# EAGLE library part VIDEL (library F030NG)
VIDEL / LSI LOGIC L5A4164
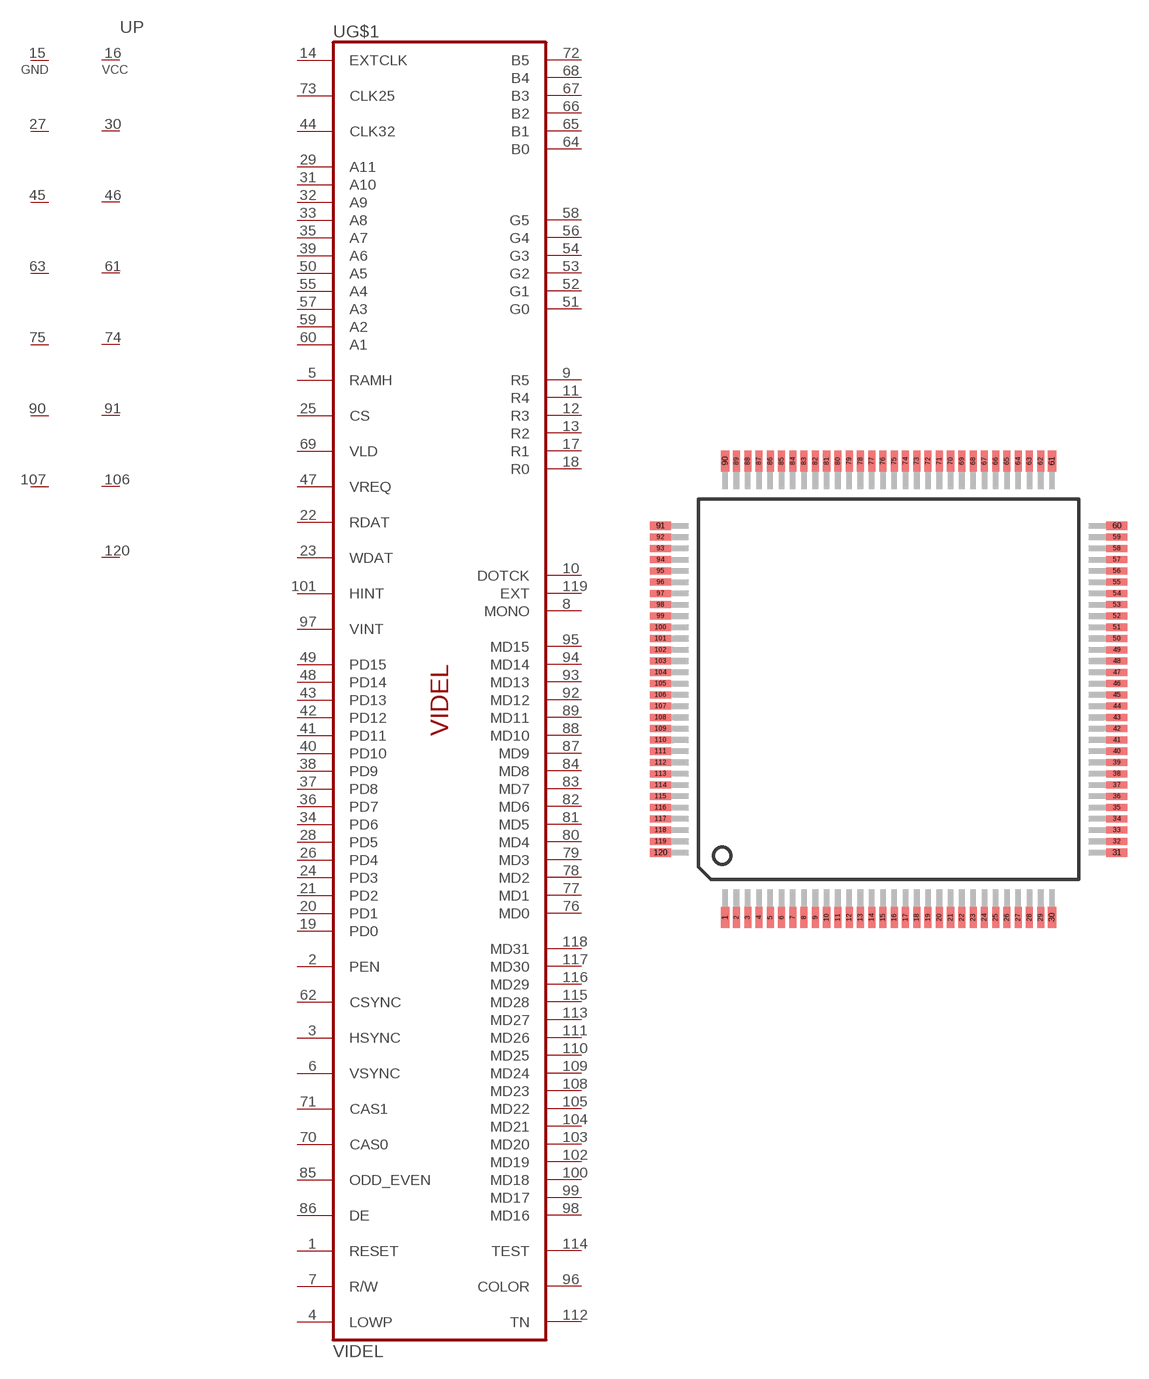
[diagram p23: symbol with the pads of QFP120; footprint QFP120]

Designator prefix U; gates G$1=VIDEL P=8VCC_7GND

## VIDEL-QFP120  [QFP120]
1  G$1:RESET  in
2  G$1:PEN  in
3  G$1:HSYNC
4  G$1:LOWP  in
5  G$1:RAMH  in
6  G$1:VSYNC
7  G$1:R/W  in
8  G$1:MONO  out
9  G$1:R5  out
10  G$1:DOTCK  out
11  G$1:R4  out
12  G$1:R3  out
13  G$1:R2  out
14  G$1:EXTCLK  in
15  P:GND  pwr
16  P:VCC  pwr
17  G$1:R1  out
18  G$1:R0  out
19  G$1:PD0
20  G$1:PD1
21  G$1:PD2
22  G$1:RDAT  out
23  G$1:WDAT  out
24  G$1:PD3
25  G$1:CS  in
26  G$1:PD4
27  P:GND  pwr
28  G$1:PD5
29  G$1:A11  in
30  P:VCC  pwr
31  G$1:A10  in
32  G$1:A9  in
33  G$1:A8  in
34  G$1:PD6
35  G$1:A7  in
36  G$1:PD7
37  G$1:PD8
38  G$1:PD9
39  G$1:A6  in
40  G$1:PD10
41  G$1:PD11
42  G$1:PD12
43  G$1:PD13
44  G$1:CLK32  in
45  P:GND  pwr
46  P:VCC  pwr
47  G$1:VREQ  out
48  G$1:PD14
49  G$1:PD15
50  G$1:A5  in
51  G$1:G0  out
52  G$1:G1  out
53  G$1:G2  out
54  G$1:G3  out
55  G$1:A4  in
56  G$1:G4  out
57  G$1:A3  in
58  G$1:G5  out
59  G$1:A2  in
60  G$1:A1  in
61  P:VCC  pwr
62  G$1:CSYNC  out
63  P:GND  pwr
64  G$1:B0  out
65  G$1:B1  out
66  G$1:B2  out
67  G$1:B3  out
68  G$1:B4  out
69  G$1:VLD  in
70  G$1:CAS0  out
71  G$1:CAS1  out
72  G$1:B5  out
73  G$1:CLK25  in
74  P:VCC  pwr
75  P:GND  pwr
76  G$1:MD0  in
77  G$1:MD1  in
78  G$1:MD2  in
79  G$1:MD3  in
80  G$1:MD4  in
81  G$1:MD5  in
82  G$1:MD6  in
83  G$1:MD7  in
84  G$1:MD8  in
85  G$1:ODD_EVEN  out
86  G$1:DE  out
87  G$1:MD9  in
88  G$1:MD10  in
89  G$1:MD11  in
90  P:GND  pwr
91  P:VCC  pwr
92  G$1:MD12  in
93  G$1:MD13  in
94  G$1:MD14  in
95  G$1:MD15  in
96  G$1:COLOR  out
97  G$1:VINT  out
98  G$1:MD16
99  G$1:MD17
100  G$1:MD18
101  G$1:HINT  out
102  G$1:MD19
103  G$1:MD20
104  G$1:MD21
105  G$1:MD22
106  P:VCC  pwr
107  P:GND  pwr
108  G$1:MD23
109  G$1:MD24
110  G$1:MD25
111  G$1:MD26
112  G$1:TN  in
113  G$1:MD27
114  G$1:TEST  in
115  G$1:MD28
116  G$1:MD29
117  G$1:MD30
118  G$1:MD31
119  G$1:EXT  in
120  P:VCC  pwr

## Footprint QFP120 (pad centres in mm)
Plastic Quad Flat Package SOT349-2 120 leads source: http://www.semiconductors.philips.com/ LQFP-MSQFP-QFP-SQFP-TQFP-REFLOW.pdf
smd 0.6 x 1.5: 1 -11.6,-16.2; 30 11.6,-16.2; 61 11.6,16.2; 90 -11.6,16.2
smd 0.5 x 1.5: 2 -10.8,-16.2; 3 -10,-16.2; 4 -9.2,-16.2; 5 -8.4,-16.2; 6 -7.6,-16.2; 7 -6.8,-16.2; 8 -6,-16.2; 9 -5.2,-16.2; 10 -4.4,-16.2; 11 -3.6,-16.2; 12 -2.8,-16.2; 13 -2,-16.2; 14 -1.2,-16.2; 15 -0.4,-16.2; 16 0.4,-16.2; 17 1.2,-16.2; 18 2,-16.2; 19 2.8,-16.2; 20 3.6,-16.2; 21 4.4,-16.2; 22 5.2,-16.2; 23 6,-16.2; 24 6.8,-16.2; 25 7.6,-16.2; 26 8.4,-16.2; 27 9.2,-16.2; 28 10,-16.2; 29 10.8,-16.2; 62 10.8,16.2; 63 10,16.2; 64 9.2,16.2; 65 8.4,16.2; 66 7.6,16.2; 67 6.8,16.2; 68 6,16.2; 69 5.2,16.2; 70 4.4,16.2; 71 3.6,16.2; 72 2.8,16.2; 73 2,16.2; 74 1.2,16.2; 75 0.4,16.2; 76 -0.4,16.2; 77 -1.2,16.2; 78 -2,16.2; 79 -2.8,16.2; 80 -3.6,16.2; 81 -4.4,16.2; 82 -5.2,16.2; 83 -6,16.2; 84 -6.8,16.2; 85 -7.6,16.2; 86 -8.4,16.2; 87 -9.2,16.2; 88 -10,16.2; 89 -10.8,16.2
smd 1.5 x 0.6: 31 16.2,-11.6; 60 16.2,11.6; 91 -16.2,11.6; 120 -16.2,-11.6
smd 1.5 x 0.5: 32 16.2,-10.8; 33 16.2,-10; 34 16.2,-9.2; 35 16.2,-8.4; 36 16.2,-7.6; 37 16.2,-6.8; 38 16.2,-6; 39 16.2,-5.2; 40 16.2,-4.4; 41 16.2,-3.6; 42 16.2,-2.8; 43 16.2,-2; 44 16.2,-1.2; 45 16.2,-0.4; 46 16.2,0.4; 47 16.2,1.2; 48 16.2,2; 49 16.2,2.8; 50 16.2,3.6; 51 16.2,4.4; 52 16.2,5.2; 53 16.2,6; 54 16.2,6.8; 55 16.2,7.6; 56 16.2,8.4; 57 16.2,9.2; 58 16.2,10; 59 16.2,10.8; 92 -16.2,10.8; 93 -16.2,10; 94 -16.2,9.2; 95 -16.2,8.4; 96 -16.2,7.6; 97 -16.2,6.8; 98 -16.2,6; 99 -16.2,5.2; 100 -16.2,4.4; 101 -16.2,3.6; 102 -16.2,2.8; 103 -16.2,2; 104 -16.2,1.2; 105 -16.2,0.4; 106 -16.2,-0.4; 107 -16.2,-1.2; 108 -16.2,-2; 109 -16.2,-2.8; 110 -16.2,-3.6; 111 -16.2,-4.4; 112 -16.2,-5.2; 113 -16.2,-6; 114 -16.2,-6.8; 115 -16.2,-7.6; 116 -16.2,-8.4; 117 -16.2,-9.2; 118 -16.2,-10; 119 -16.2,-10.8